# Altium schematic symbol library Custom1.SchLib: 476 symbols (part 14 of 16)
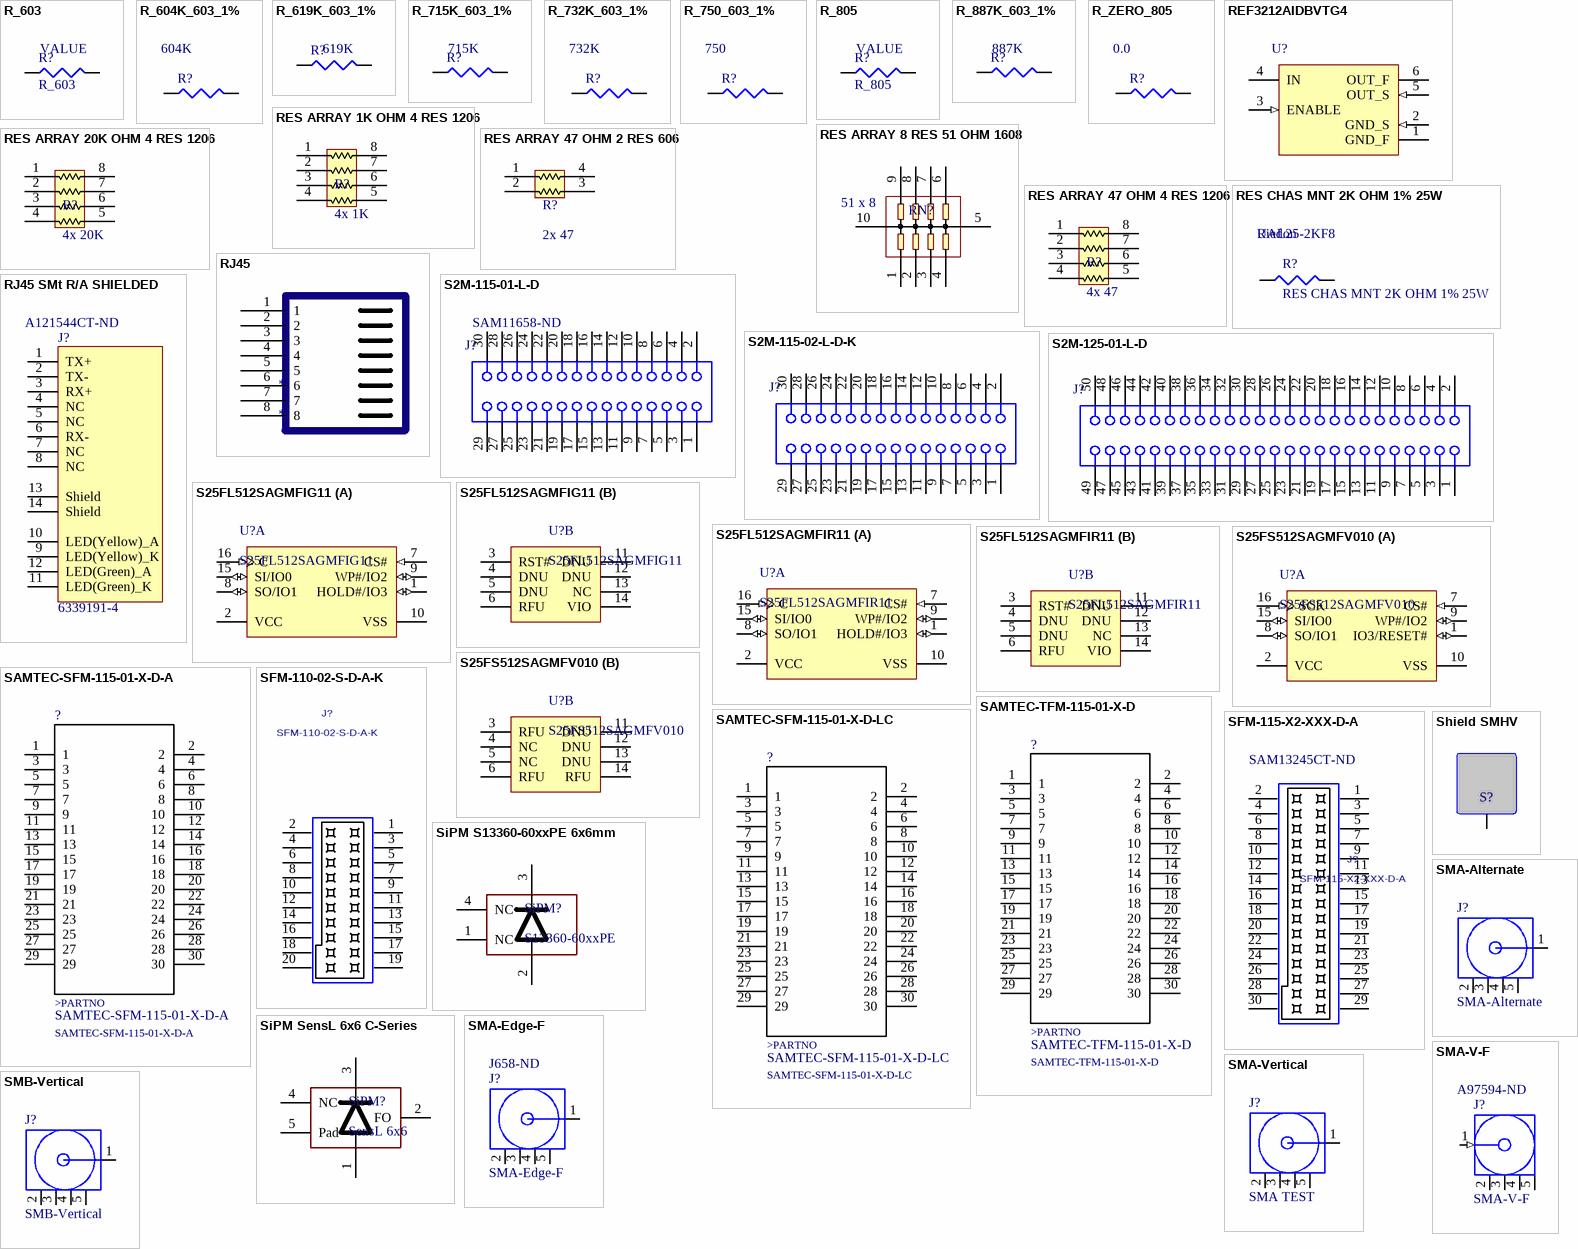
[diagram p38: symbols R_603 to SMB-Vertical]

## RES ARRAY 1K OHM 4 RES 1206
designator R?, comment 4x 1K
RES ARRAY 1K OHM 4 RES 1206; Manufacturer: Rohm Semiconductor; Manufacturer Part Number: MNR14ERAPJ102; Circuit Type: Isolated; Tolerance: ±5%; Number of Resistors: 4; Power Per Element: 62.5mW; Temperature Coefficient: ±200ppm/°C; Supplier 1: Digi-Key; RoHS: RoHS Compliant; Category: Resistors; Stock 1: 37433; Pricing 1: 1=0.1, 10=0.041, 25=0.03, 100=0.0169, 250=0.01288, 500=0.0103, 1000=0.00758 (USD); Packaging: Cut Tape (CT); Resistance (Ohms): 1k; Number of Pins: 8; Operating Temperature: -55°C ~ 155°C; Applications: -; Mounting Type: Surface Mount; Package / Case: 1206 (3216 Metric), Convex, Long Side Terminals; Supplier Device Package: -; Size / Dimension: 0.126" L x 0.063" W (3.20mm x 1.60mm); Height: 0.024" (0.60mm); ComponentLink1URL: http://rohmfs.rohm.com/en/products/databook/datasheet/passive/resistor/chip_resistor_network/mnr_g.pdf; ComponentLink1Description: http://rohmfs.rohm.com/en/products/databook/datasheet/passive/resistor/chip_resistor_network/mnr_g.pdf; Supplier Part Number 1: RHM1595CT-ND
footprint R-Pack-4 1206
pins: 1, 2, 3, 4, 5, 6, 7, 8

## RES ARRAY 8 RES 51 OHM 1608
designator RN?, comment Resistance (Ohms): 51 x 8  (hidden comment: Res Network 8)
RES ARRAY 8 RES 51 OHM 1608; Manufacturer: Bourns Inc.; Manufacturer Part Number: CAT25-510JALF; Circuit Type: Bussed; Tolerance: ±5%; Number of Resistors: 8; Power Per Element: 62.5mW; Temperature Coefficient: ±200ppm/°C; Supplier 1: Digi-Key; RoHS: RoHS Compliant; Category: Resistors; Stock 1: 6340; Pricing 1: 1=0.19, 10=0.178, 25=0.1604, 50=0.1568, 100=0.1495, 250=0.13984, 500=0.12558, 1000=0.11592 (USD); Packaging: Cut Tape (CT); Number of Pins: 10; Operating Temperature: -55°C ~ 125°C; Applications: -; Mounting Type: Surface Mount; Package / Case: 1608, Concave, Long Side Terminals; Supplier Device Package: -; Size / Dimension: 0.157" L x 0.083" W (4.00mm x 2.10mm); Height: 0.026" (0.65mm); ComponentLink1URL: http://www.bourns.com/docs/Product-Datasheets/CAT25.pdf; ComponentLink1Description: http://www.bourns.com/docs/Product-Datasheets/CAT25.pdf; Supplier Part Number 1: CAT25-510JALFCT-ND
footprint Res Array Cat25
pins: 1, 2, 3, 4, 5, 6, 7, 8, 9, 10

## RES ARRAY 20K OHM 4 RES 1206
designator R?, comment 4x 20K
RES ARRAY 20K OHM 4 RES 1206; Manufacturer: Rohm Semiconductor; Manufacturer Part Number: MNR14ERAPJ203; Circuit Type: Isolated; Tolerance: ±5%; Number of Resistors: 4; Power Per Element: 62.5mW; Temperature Coefficient: ±200ppm/°C; Supplier 1: Digi-Key; RoHS: RoHS Compliant; Category: Resistors; Stock 1: 14149; Pricing 1: 1=0.1, 10=0.041, 25=0.03, 100=0.0169, 250=0.01288, 500=0.0103, 1000=0.00758 (USD); Packaging: Cut Tape (CT); Resistance (Ohms): 20k; Number of Pins: 8; Operating Temperature: -55°C ~ 155°C; Applications: -; Mounting Type: Surface Mount; Package / Case: 1206 (3216 Metric), Convex, Long Side Terminals; Supplier Device Package: -; Size / Dimension: 0.126" L x 0.063" W (3.20mm x 1.60mm); Height: 0.024" (0.60mm); ComponentLink1URL: http://rohmfs.rohm.com/en/products/databook/datasheet/passive/resistor/chip_resistor_network/mnr_g.pdf; ComponentLink1Description: http://rohmfs.rohm.com/en/products/databook/datasheet/passive/resistor/chip_resistor_network/mnr_g.pdf; Supplier Part Number 1: RHM1436CT-ND
footprint R-Pack-4 1206
pins: 1, 2, 3, 4, 5, 6, 7, 8

## RES ARRAY 47 OHM 2 RES 606
designator R?, comment 2x 47
RES ARRAY 47 OHM 2 RES 606; Manufacturer: Rohm Semiconductor; Manufacturer Part Number: MNR12ERAPJ470; Circuit Type: Isolated; Resistance (Ohms): 47; Tolerance: ±5%; Number of Resistors: 2; Power Per Element: 62.5mW; Temperature Coefficient: ±200ppm/°C; Supplier 1: Digi-Key; RoHS: RoHS Compliant; Category: Resistors; Stock 1: 10000; Pricing 1: 1=0.1, 10=0.064, 25=0.0464, 100=0.026, 250=0.0198, 500=0.01584, 1000=0.01166 (USD); Packaging: Cut Tape (CT); Number of Pins: 4; Operating Temperature: -55°C ~ 155°C; Applications: -; Mounting Type: Surface Mount; Package / Case: 0606, Convex; Supplier Device Package: -; Size / Dimension: 0.063" L x 0.063" W (1.60mm x 1.60mm); Height: 0.022" (0.55mm); ComponentLink1URL: http://rohmfs.rohm.com/en/products/databook/datasheet/passive/resistor/chip_resistor_network/mnr_g.pdf; ComponentLink1Description: http://rohmfs.rohm.com/en/products/databook/datasheet/passive/resistor/chip_resistor_network/mnr_g.pdf; Supplier Part Number 1: RHM1393CT-ND
footprint R-Pack-2 606
pins: 1, 2, 3, 4

## RES ARRAY 47 OHM 4 RES 1206
designator R?, comment 4x 47
RES ARRAY 47 OHM 4 RES 1206; Manufacturer: Rohm Semiconductor; Manufacturer Part Number: MNR14ERAPJ470; Circuit Type: Isolated; Resistance (Ohms): 47; Tolerance: ±5%; Number of Resistors: 4; Power Per Element: 62.5mW; Temperature Coefficient: ±200ppm/°C; Supplier 1: Digi-Key; RoHS: RoHS Compliant; Category: Resistors; Stock 1: 9813; Pricing 1: 1=0.1, 10=0.041, 25=0.03, 100=0.0169, 250=0.01288, 500=0.0103, 1000=0.00758 (USD); Packaging: Cut Tape (CT); Number of Pins: 8; Operating Temperature: -55°C ~ 155°C; Applications: -; Mounting Type: Surface Mount; Package / Case: 1206 (3216 Metric), Convex, Long Side Terminals; Supplier Device Package: -; Size / Dimension: 0.126" L x 0.063" W (3.20mm x 1.60mm); Height: 0.024" (0.60mm); ComponentLink1URL: http://rohmfs.rohm.com/en/products/databook/datasheet/passive/resistor/chip_resistor_network/mnr_g.pdf; ComponentLink1Description: http://rohmfs.rohm.com/en/products/databook/datasheet/passive/resistor/chip_resistor_network/mnr_g.pdf; Supplier Part Number 1: RHM1604CT-ND
footprint R-Pack-4 1206
pins: 1, 2, 3, 4, 5, 6, 7, 8

## RES CHAS MNT 2K OHM 1% 25W
designator R?  Manufacturer: Riedon
UAL25-2KF8; Resistance: 2KR; Temperature Coefficient: 20ppm/°C; Lead/Base Style: Solder; Supplier 1: Digi-Key; Stock 1: 81; Pricing 1: 1=3.39, 10=3.025, 25=2.8436, 50=2.6016, 100=2.2385, 250=1.936, 500=1.7545, 1000=1.5428, 5000=1.4883 (USD); Housing Material: Aluminium; Min Operating Temperature: -55°C; Max Operating Temperature: 275°C; Package Quantity: 25; Packaging: Bulk; Tolerance: 1%; Composition: Wirewound; Max Power Dissipation: 25W; Length: 1.063inch; Height: 0.575inch; Width: 1.079inch; ComponentLink1URL: https://datasheet.ciiva.com/15007/ual-15007994.pdf; ComponentLink1Description: https://datasheet.ciiva.com/15007/ual-15007994.pdf; ComponentLink2URL: https://datasheet.ciiva.com/18613/ual-18613775.pdf; ComponentLink2Description: https://datasheet.ciiva.com/18613/ual-18613775.pdf; Supplier Part Number 1: 696-1499-ND; Manufacturer Part Number: UAL25-2KF8
pins: 1, 2

## RJ45
designator *
pins: 1, 2, 3, 4, 5, 6, 7, 8

## RJ45 SMt R/A SHIELDED
designator J?, comment 6339191-4  Supplier Part Number 1: A121544CT-ND
100 Base-TX (Fast Ethernet) SMD RJ45 single port (1x1) with LEDS Integrated Magnetics Connector; Manufacturer: TE Connectivity; Max Voltage Rating (AC): 150V; Shielding: Shielded; Number of Positions: 8; Number of Ports: 1; Direction: Up; Connector Type: Jack; Keyed: No; PCB Mounting Orientation: Right Angle; Pitch: 2.54mm; PCB Thickness: 1.57mm; Supplier 1: Digi-Key; Manufacturer Part Number: 6339191-4; Stock 1: 2748; Pricing 1: 1 = 5.04000, 10 = 4.84200, 25 = 4.43800, 50 = 4.23640, 100 = 4.03460 (USD); RoHS: Yes; Contact Plating: Gold; Contact Material: Bronze; Color: Green; Housing Color: Black; Housing Material: Polymer; Min Operating Temperature: -40°C; Max Operating Temperature: 85°C; Packaging: Tape and Reel; Package Quantity: 200; Number of Rows: 1; Termination: SMD/SMT; Number of Contacts: 8; Number of Positions Loaded: 8; Orientation: Right Angle; Element Configuration: Single; Length: 18.64mm; Depth: 15.62mm; Radiation Hardening: No; Flammability Rating: UL94 V-0; ComponentLink1URL: https://datasheet.ciiva.com/686/eng-cd-6339191-e-686126.pdf?src-supplier=Digi-Key; ComponentLink1Description: https://datasheet.ciiva.com/686/eng-cd-6339191-e-686126.pdf?src-supplier=Digi-Key
footprint RJ45 SM 6339191-4
pins: 1 TX+, 2 TX-, 3 RX+, 4 NC, 5 NC, 6 RX-, 7 NC, 8 NC, 9 LED(Yellow)_K, 10 LED(Yellow)_A, 11 LED(Green)_K, 12 LED(Green)_A, 13 Shield, 14 Shield

## S2M-115-01-L-D
designator J?  Supplier Part Number 1: SAM11658-ND
High Reliability Cable Socket, Surface Mount, Vertical, -55 to 125 degC, 2 mm Pitch, 30-Pin, Female, RoHS; Manufacturer: Samtec; PartNumber: S2M-115-02-F-D-K; Manufacturer Part Number: S2M-115-01-L-D; Pitch: 2 mm; Contact Resistance: 10mR; Number of Contacts: 30; Gender: Receptacle; DatasheetVersion: F-214; PackageVersion: M, 9/2010; PackageReference: S2M-115-02-X-D-K; PackageDescription: 2 mm Double Row Socket Strip; Orientation: Vertical; RoHS: True; Temperature Range: -55 to 125 degC; Mounting Technology: Surface Mount; ComponentLink1Description: Manufacturer URL; ComponentLink1URL: http://www.samtec.com; ComponentLink2Description: Datasheet; ComponentLink2URL: http://www.samtec.com/documents/webfiles/pdf/s2m.pdf; ComponentLink3Description: Package Specification; ComponentLink3URL: http://www.samtec.com/documents/webfiles/cpdf/S2M-1XX-XX-X-D-XX-XX-MKT.pdf; Supplier 1: Digi-Key; Stock 1: 307; Pricing 1: 1 = 6.42000, 10 = 5.85900, 100 = 4.46400, 500 = 3.76650, 1000 = 3.55725 (USD); Mount: Through Hole; Contact Plating: Gold; Contact Material: Copper; Housing Color: Black; Housing Material: Polymer; Min Operating Temperature: -55°C; Max Operating Temperature: 125°C; Number of Rows: 2; Termination: Solder; Length: 30.35mm; REACH SVHC: No SVHC; ComponentLink4URL: http://cloud.samtec.com/catalog_english/s2m.pdf; ComponentLink4Description: http://cloud.samtec.com/catalog_english/s2m.pdf; ComponentLink5URL: http://datasheet.octopart.com/S2M-115-01-L-D-Samtec-datasheet-97202882.pdf; ComponentLink5Description: http://datasheet.octopart.com/S2M-115-01-L-D-Samtec-datasheet-97202882.pdf; ComponentLink6URL: http://sigma.octopart.com/97202883/technical_drawing/Samtec-S2M-115-01-L-D.pdf; ComponentLink6Description: http://sigma.octopart.com/97202883/technical_drawing/Samtec-S2M-115-01-L-D.pdf; ComponentLink7URL: http://datasheet.octopart.com/S2M-115-01-L-D-Samtec-datasheet-10883520.pdf; ComponentLink7Description: http://datasheet.octopart.com/S2M-115-01-L-D-Samtec-datasheet-10883520.pdf; ComponentLink8URL: http://datasheet.octopart.com/S2M-115-01-L-D-Samtec-datasheet-10882915.pdf; ComponentLink8Description: http://datasheet.octopart.com/S2M-115-01-L-D-Samtec-datasheet-10882915.pdf; ComponentLink9URL: http://datasheet.octopart.com/S2M-115-01-L-D-Samtec-datasheet-116535980.pdf; ComponentLink9Description: http://datasheet.octopart.com/S2M-115-01-L-D-Samtec-datasheet-116535980.pdf
footprint SMTC-S2M-115-02-X-D-K (Socket Strip, 2x15 Pins, Vertical, 2mm Pitch, Female)
pins: 1, 2, 3, 4, 5, 6, 7, 8, 9, 10, 11, 12, 13, 14, 15, 16, 17, 18, 19, 20, 21, 22, 23, 24, 25, 26, 27, 28, 29, 30

## S2M-115-02-L-D-K
designator J?
High Reliability Cable Socket, Surface Mount, Vertical, -55 to 125 degC, 2 mm Pitch, 30-Pin, Female, RoHS; Manufacturer: Samtec; PartNumber: S2M-115-02-L-D-K; Pitch: 2 mm; DatasheetVersion: F-214; PackageVersion: M, 9/2010; PackageReference: S2M-115-02-X-D-K; PackageDescription: 2 mm Double Row Socket Strip; Orientation: Vertical; RoHS: True; Temperature Range: -55 to 125 degC; Mounting Technology: Surface Mount; ComponentLink1Description: Manufacturer URL; ComponentLink1URL: http://www.samtec.com; ComponentLink2Description: Datasheet; ComponentLink2URL: http://www.samtec.com/documents/webfiles/pdf/s2m.pdf; ComponentLink3Description: Package Specification; ComponentLink3URL: http://www.samtec.com/documents/webfiles/cpdf/S2M-1XX-XX-X-D-XX-XX-MKT.pdf
footprint SMTC-S2M-115-02-X-D-K (Socket Strip, 2x15 Pins, Vertical, 2mm Pitch, Female)
pins: 1, 2, 3, 4, 5, 6, 7, 8, 9, 10, 11, 12, 13, 14, 15, 16, 17, 18, 19, 20, 21, 22, 23, 24, 25, 26, 27, 28, 29, 30

## S2M-125-01-L-D
designator J?
High Reliability Cable Socket, Through-hole, Vertical, -55 to 125 degC, 2 mm Pitch, 50-Pin, Female, RoHS; Manufacturer: Samtec; PartNumber: S2M-125-01-L-D; Pitch: 2 mm; DatasheetVersion: F-214; PackageVersion: M, 9/2010; PackageReference: S2M-125-01-X-D; PackageDescription: 2 mm Double Row Socket Strip; Supplier 1: Farnell; Supplier Part Number 1: 2085245; Orientation: Vertical; RoHS: True; Temperature Range: -55 to 125 degC; Mounting Technology: Through-hole; ComponentLink1Description: Manufacturer URL; ComponentLink1URL: http://www.samtec.com; ComponentLink2Description: Datasheet; ComponentLink2URL: http://www.samtec.com/documents/webfiles/pdf/s2m.pdf; ComponentLink3Description: Package Specification; ComponentLink3URL: http://www.samtec.com/documents/webfiles/cpdf/S2M-1XX-XX-X-D-XX-XX-MKT.pdf
footprint SMTC-S2M-125-01-X-D (Socket Strip, 2x25 Pins, Vertical, 2mm Pitch, Female)
pins: 1, 2, 3, 4, 5, 6, 7, 8, 9, 10, 11, 12, 13, 14, 15, 16, 17, 18, 19, 20, 21, 22, 23, 24, 25, 26, 27, 28, 29, 30, 31, 32, 33, 34, 35, 36, 37, 38, 39, 40, 41, 42, 43, 44, 45, 46, 47, 48, 49, 50

## S25FL512SAGMFIG11
designator U?
IC FLASH 512MBIT 133MHZ 16SOIC; Manufacturer: Spansion; Memory Type: FLASH - NOR; Memory Size: 512M (64M x 8); Interface: SPI Serial; Voltage - Supply: 2.7 V ~ 3.6 V; Supplier 1: Digi-Key; Manufacturer Part Number: S25FL512SAGMFIG11; RoHS: RoHS Compliant; Category: Integrated Circuits (ICs); Stock 1: 40; Pricing 1: 1=5.9, 10=5.382, 50=5.243, 100=4.7034, 250=4.68532, 500=4.4555 (USD); Packaging: Tube; Format - Memory: FLASH; Speed: 133MHz; Operating Temperature: -40°C ~ 85°C; Package / Case: 16-SOIC (0.295", 7.50mm Width); Supplier Device Package: 16-SOIC; ComponentLink1URL: http://www.spansion.com/Support/Datasheets/S25FL512S_00.pdf; ComponentLink1Description: http://www.spansion.com/Support/Datasheets/S25FL512S_00.pdf; Supplier Part Number 1: 1274-1147-ND
footprint MICT-SF-16_N (SOIC, 16-Leads, Body 10.3x7.5mm, Pitch 1.27mm, IPC Medium Density)
part A pins: 1 HOLD#/IO3 (io) "HOLD: Pauses any serial communications with the device without deselecting the device. DQ1 (output) is High-Z. DQ0 (input) and the clock are "Don't Care." To enable HOLD, the device must be selected with S# driven LOW.HOLD# (See Datasheet)", 2 VCC (power) "Device core power supply: Source voltage.", 7 CS# (in) "Chip select: When S# is HIGH, the device is deselected and DQ1 is at High-Z. When in extended SPI mode, with the device deselected, DQ1 is tri-stated. Unless an internal PROGRAM,ERASE, or WRITE STATUS REGISTER cycle is in (See Datasheet)", 8 SO/IO1 (io) "Serial data:Transfers data serially out of the device. Data is shifted out on the falling edge of the clock. DQ1 is used for input/output during the following operations: DUAL INPUT FAST PROGRAM, QUAD INPUT FAST PROGRAM, (See Datasheet)", 9 WP#/IO2 (io) "Write protect: W# can be used as a protection control input or in QIO-SPI operations. When in extended SPI with single or dual commands, the WRITE PROTECT function is selectable by the voltage range applied to the signal. If (See Datasheet)", 10 VSS (power) "Ground: Reference for the VCC supply voltage.", 15 SI/IO0 (io) "Serial data: Transfers data serially into the device. It receives command codes, addresses, and the data to be programmed. Values are latched on the rising edge of the clock. DQ0 is used for input/output during the following (See Datasheet)", 16 C (in) "Clock: Provides the timing of the serial interface. Commands, addresses, or data present at serial data inputs are latched on the rising edge of the clock. Data is shifted out on the falling edge of the clock."
part B pins: 3 RST# "Do not use.", 4 DNU "Do not use.", 5 DNU "Do not use.", 6 RFU "Do not use.", 11 DNU "Do not use.", 12 DNU "Do not use.", 13 NC "Do not use.", 14 VIO "Do not use."

## S25FL512SAGMFIR11
designator U?
IC FLASH 512MBIT 133MHZ 16SOIC; Manufacturer: Spansion; Memory Type: FLASH - NOR; Memory Size: 512M (64M x 8); Interface: SPI Serial; Voltage - Supply: 2.7 V ~ 3.6 V; Supplier 1: Digi-Key; Manufacturer Part Number: S25FL512SAGMFIR11; RoHS: RoHS Compliant; Category: Integrated Circuits (ICs); Stock 1: 0; Pricing 1: 94=5.24309 (USD); Packaging: Tube; Format - Memory: FLASH; Speed: 133MHz; Operating Temperature: -40°C ~ 85°C; Package / Case: 16-SOIC (0.295", 7.50mm Width); Supplier Device Package: 16-SOIC; ComponentLink1URL: http://www.spansion.com/Support/Datasheets/S25FL512S_00.pdf; ComponentLink1Description: http://www.spansion.com/Support/Datasheets/S25FL512S_00.pdf; Supplier Part Number 1: S25FL512SAGMFIR11-ND
footprint MICT-SF-16_N (SOIC, 16-Leads, Body 10.3x7.5mm, Pitch 1.27mm, IPC Medium Density)
part A pins: 1 HOLD#/IO3 (io) "HOLD: Pauses any serial communications with the device without deselecting the device. DQ1 (output) is High-Z. DQ0 (input) and the clock are "Don't Care." To enable HOLD, the device must be selected with S# driven LOW.HOLD# (See Datasheet)", 2 VCC (power) "Device core power supply: Source voltage.", 7 CS# (in) "Chip select: When S# is HIGH, the device is deselected and DQ1 is at High-Z. When in extended SPI mode, with the device deselected, DQ1 is tri-stated. Unless an internal PROGRAM,ERASE, or WRITE STATUS REGISTER cycle is in (See Datasheet)", 8 SO/IO1 (io) "Serial data:Transfers data serially out of the device. Data is shifted out on the falling edge of the clock. DQ1 is used for input/output during the following operations: DUAL INPUT FAST PROGRAM, QUAD INPUT FAST PROGRAM, (See Datasheet)", 9 WP#/IO2 (io) "Write protect: W# can be used as a protection control input or in QIO-SPI operations. When in extended SPI with single or dual commands, the WRITE PROTECT function is selectable by the voltage range applied to the signal. If (See Datasheet)", 10 VSS (power) "Ground: Reference for the VCC supply voltage.", 15 SI/IO0 (io) "Serial data: Transfers data serially into the device. It receives command codes, addresses, and the data to be programmed. Values are latched on the rising edge of the clock. DQ0 is used for input/output during the following (See Datasheet)", 16 C (in) "Clock: Provides the timing of the serial interface. Commands, addresses, or data present at serial data inputs are latched on the rising edge of the clock. Data is shifted out on the falling edge of the clock."
part B pins: 3 RST# "Do not use.", 4 DNU "Do not use.", 5 DNU "Do not use.", 6 RFU "Do not use.", 11 DNU "Do not use.", 12 DNU "Do not use.", 13 NC "Do not use.", 14 VIO "Do not use."

## S25FS512SAGMFV010
designator U?
IC FLASH 512M SPI 133MHZ 16SOIC; Manufacturer: Cypress; Supplier 1: Digi-Key; Manufacturer Part Number: S25FS512SAGMFV010; Stock 1: 221; Pricing 1: 1 = 8.400000, 10 = 7.729000, 25 = 7.568800, 50 = 7.541800, 240 = 6.765830, 480 = 6.560670, 720 = 6.239540, 1200 = 6.021000 (USD); RoHS: No; Supplier Part Number 1: S25FS512SAGMFV010-ND; ComponentLink1Description: Data Sheet; ComponentLink1URL: https://www.cypress.com/file/216376/download; ComponentLink2Description: Digi-Key Link; ComponentLink2URL: https://www.digikey.com/products/en/integrated-circuits-ics/memory/774?k=S25FS512SAGMFV010-ND&k=&pkeyword=S25FS512SAGMFV010-ND&sv=0&s=42281&sf=0&quantity=&ColumnSort=0&page=1&pageSize=25
footprint MICT-SF-16_N (SOIC, 16-Leads, Body 10.3x7.5mm, Pitch 1.27mm, IPC Medium Density)
part A pins: 1 IO3/RESET# (io) "HOLD: Pauses any serial communications with the device without deselecting the device. DQ1 (output) is High-Z. DQ0 (input) and the clock are "Don't Care." To enable HOLD, the device must be selected with S# driven LOW.HOLD# (See Datasheet)", 2 VCC (power) "Device core power supply: Source voltage.", 7 CS# (in) "Chip select: When S# is HIGH, the device is deselected and DQ1 is at High-Z. When in extended SPI mode, with the device deselected, DQ1 is tri-stated. Unless an internal PROGRAM,ERASE, or WRITE STATUS REGISTER cycle is in (See Datasheet)", 8 SO/IO1 (io) "Serial data:Transfers data serially out of the device. Data is shifted out on the falling edge of the clock. DQ1 is used for input/output during the following operations: DUAL INPUT FAST PROGRAM, QUAD INPUT FAST PROGRAM, (See Datasheet)", 9 WP#/IO2 (io) "Write protect: W# can be used as a protection control input or in QIO-SPI operations. When in extended SPI with single or dual commands, the WRITE PROTECT function is selectable by the voltage range applied to the signal. If (See Datasheet)", 10 VSS (power) "Ground: Reference for the VCC supply voltage.", 15 SI/IO0 (io) "Serial data: Transfers data serially into the device. It receives command codes, addresses, and the data to be programmed. Values are latched on the rising edge of the clock. DQ0 is used for input/output during the following (See Datasheet)", 16 SCK (in) "Clock: Provides the timing of the serial interface. Commands, addresses, or data present at serial data inputs are latched on the rising edge of the clock. Data is shifted out on the falling edge of the clock."
part B pins: 3 RFU "Do not use.", 4 NC "Do not use.", 5 NC "Do not use.", 6 RFU "Do not use.", 11 DNU "Do not use.", 12 DNU "Do not use.", 13 DNU "Do not use.", 14 RFU "Do not use."

## SAMTEC-SFM-115-01-X-D-A
designator ?
/ .050 Tiger Eyeâ„¢ High-Reliability Socket Strip /; MP: SFM-115-01-S-D-A; MF: Samtec; Package: None; Digi-Key_Purchase_URL: https://www.digikey.com/product-detail/en/samtec-inc/SFM-115-01-S-D-A/SAM10690-ND/2664627?utm_source=snapeda&utm_medium=aggregator&utm_campaign=symbol; Digi-Key_Part_Number: SAM10690-ND; SnapEDA_Link: https://www.snapeda.com/parts/SFM-115-01-S-D-A/Samtec%20Inc./view-part/?ref=snap; Value: *
footprint SAMTEC-SFM-115-01-X-D-A
pins: 1, 2, 3, 4, 5, 6, 7, 8, 9, 10, 11, 12, 13, 14, 15, 16, 17, 18, 19, 20, 21, 22, 23, 24, 25, 26, 27, 28, 29, 30
text: >PARTNO

## SAMTEC-SFM-115-01-X-D-LC
designator ?
/ Conn Socket Strip SKT 30 POS 1.27mm Solder ST Top Entry Thru-Hole TIGER EYEâ„¢ Tube /; MP: SFM-115-01-S-D-LC; MF: Samtec; Package: None; Digi-Key_Purchase_URL: https://www.digikey.com/product-detail/en/samtec-inc/SFM-115-01-S-D-LC/SAM12831-ND/2664628?utm_source=snapeda&utm_medium=aggregator&utm_campaign=symbol; Digi-Key_Part_Number: SAM12831-ND; SnapEDA_Link: https://www.snapeda.com/parts/SFM-115-01-S-D-LC/Samtec%20Inc./view-part/?ref=snap; Value: *
footprint SAMTEC-SFM-115-01-X-D-LC
pins: 1, 2, 3, 4, 5, 6, 7, 8, 9, 10, 11, 12, 13, 14, 15, 16, 17, 18, 19, 20, 21, 22, 23, 24, 25, 26, 27, 28, 29, 30
text: >PARTNO

## SAMTEC-TFM-115-01-X-D
designator ?
Conn Shrouded Header HDR 30 POS 1.27mm Solder ST Thru-Hole Tube; MP: TFM-115-01-S-D-A; MF: Samtec; Package: None; Digi-Key_Purchase_URL: https://www.digikey.com/product-detail/en/samtec-inc/TFM-115-01-S-D-A/SAM12073-ND/6694170?utm_source=snapeda&utm_medium=aggregator&utm_campaign=symbol; Digi-Key_Part_Number: SAM12073-ND; SnapEDA_Link: https://www.snapeda.com/parts/TFM-115-01-S-D-A/Samtec%20Inc./view-part/?ref=snap; Value: *
footprint SAMTEC-TFM-115-01-X-D
pins: 1, 2, 3, 4, 5, 6, 7, 8, 9, 10, 11, 12, 13, 14, 15, 16, 17, 18, 19, 20, 21, 22, 23, 24, 25, 26, 27, 28, 29, 30
text: >PARTNO

## SFM-110-02-S-D-A-K
designator J?
20 Position Receptacle Connector  Surface Mount; ComponentLink1Description: Datasheet; ComponentLink1URL: http://suddendocs.samtec.com/catalog_english/sfm.pdf; ComponentLink2Description: Supplier Link; ComponentLink2URL: https://www.digikey.com/product-detail/en/samtec-inc/SFM-110-02-S-D-A-K/SAM11698-ND/6694293
footprint SFM-115-X2-XXX-D-A
pins: 1, 2, 3, 4, 5, 6, 7, 8, 9, 10, 11, 12, 13, 14, 15, 16, 17, 18, 19, 20

## SFM-115-X2-XXX-D-A
designator J?  Supplier Part Number 1: SAM13245CT-ND
SOCKET STRIP, .050" (1.27mm) PITCH, SURFACE MOUNT.; Manufacturer: Samtec; Manufacturer Part Number: SFM-115-02-S-D-A-K-TR; Contact Resistance: 15mR; Connector Type: Receptacle,Socket; Number of Positions: 30; Gender: Receptacle; Max Voltage Rating (AC): 250V; Row Spacing: 0.05inch; Supplier 1: Digi-Key; RoHS: Yes; Stock 1: 1543; Pricing 1: 1 = 8.10000, 10 = 7.74400, 100 = 6.51200 (USD); Mount: Surface Mount; Contact Plating: Gold; Color: Black; Contact Material: Copper; Housing Color: Black; Housing Material: Polymer; Min Operating Temperature: -55°C; Max Operating Temperature: 125°C; Number of Rows: 2; Packaging: Tape and Reel; Termination: Solder; Number of Contacts: 30; Orientation: Straight; Length: 22.22mm; Pitch: 1.27mm; Depth: 3.68mm; Radiation Hardening: No; REACH SVHC: No SVHC; ComponentLink2Description: Supplier Link; ComponentLink2URL: https://www.digikey.com/products/en?keywords=SAM13245CT-ND; ComponentLink3Description: Datasheet; ComponentLink3URL: http://suddendocs.samtec.com/catalog_english/sfm.pdf; ComponentLink4Description: Drawing; ComponentLink4URL: http://suddendocs.samtec.com/prints/sfm-1xx-xx-xxx-d-xxx-mkt.pdf
footprint SFM-115-X2-XXX-D-A
pins: 1, 2, 3, 4, 5, 6, 7, 8, 9, 10, 11, 12, 13, 14, 15, 16, 17, 18, 19, 20, 21, 22, 23, 24, 25, 26, 27, 28, 29, 30

## Shield SMHV
designator S?, comment Shield  (value not drawn)
Mu-metal shield for SMHV
footprint Shield SMHV
pins: 1

## SiPM S13360-60xxPE 6x6mm
designator SiPM?, comment S13360-60xxPE
S13660-60xxPE
footprint SiPM S13360-60xxpe (Hamamatsu 6x6mm SMT)
pins: 1 NC, 2, 3, 4 NC

## SiPM SensL 6x6 C-Series
designator SiPM?, comment SensL 6x6
MicroFC-600xx-SMT-C1
footprint SiPM 6x6 C-Series
pins: 1, 2 FO, 3, 4 NC, 5 Pad

## SMA-Alternate
designator J?
CONN SMA JACK STR 50 OHM PCB; Manufacturer: TE Connectivity; Manufacturer Part Number: 5-1814832-1; Connector Type: Jack, Female Socket; Contact Termination: Solder; Impedance: 50 Ohm; Frequency - Max: 3GHz; Body Material: Zinc Alloy; Body Finish: Gold; Center Contact Material: Phosphor Bronze; Dielectric Material: Polytetrafluoroethylene (PTFE); Supplier 1: Digi-Key; RoHS: RoHS Compliant; Category: Connectors, Interconnects; Stock 1: 20137; Pricing 1: 1=2.85, 10=2.736, 25=2.508, 50=2.394, 100=2.28, 250=1.995, 500=1.938, 1000=1.653, 2500=1.539 (USD); Packaging: Bulk; Connector Style: SMA; Shield Termination: Solder; Mounting Type: Through Hole; Cable Group: -; Fastening Type: Threaded; Features: -; Housing Color: -; Ingress Protection: -; Center Contact Plating: Gold; Voltage Rating: -; Operating Temperature: -; ComponentLink1URL: http://www.te.com/commerce/DocumentDelivery/DDEController?Action=srchrtrv&DocNm=1814832&DocType=Customer+Drawing&DocLang=English; ComponentLink1Description: http://www.te.com/commerce/DocumentDelivery/DDEController?Action=srchrtrv&DocNm=1814832&DocType=Customer+Drawing&DocLang=English; Supplier Part Number 1: A97594-ND
footprint SMA-SMB
pins: 1 Signal "Signal Pin", 2 GND (power), 3 GND (power), 4 GND (power), 5 GND (power)

## SMA-Edge-F
designator J?  Supplier Part Number 1: J658-ND
RF Coaxial PCB Connector, MCX; Thru-Hole, Right-Angle Mount Socket, Blunt Post Terminal, 50 Ohm Impedance; Manufacturer: Bel Stewart / Cinch Connectivity; Manufacturer Part Number: 142-0701-851; Body Material: Brass; Body Style: Straight; Connector Type: Jack PCB; Brand: Johnson / Emerson Connectivity Solutions; Gender: Jack (Female); Impedance: 50 Ohms; Maximum Frequency: 18 GHz; RF Series: SMA; Supplier 1: Digikey; Stock 1: 66611; Pricing 1: 1=5.94, 10=5.292, 50=4.32, 100=3.888, 250=3.564, 500=3.024, 750=2.8728, 1000=2.7, 2500=2.592 (USD); Contact Plating: Gold; Factory Pack Quantity: 5; Product Category: RF Connectors / Coaxial Connectors; Product: Connectors; Orientation: Straight; Operating Temperature Range: - 65 C to + 165 C; RoHS: Details; Termination Style: Solder; Series: SMA; ComponentLink1URL: https://datasheet.ciiva.com/643/dr-1420701851-643347.pdf; ComponentLink1Description: https://datasheet.ciiva.com/643/dr-1420701851-643347.pdf; ComponentLink2URL: https://datasheet.ciiva.com/43573/getdatasheetpartid-687037-43573046.pdf; ComponentLink2Description: https://datasheet.ciiva.com/43573/getdatasheetpartid-687037-43573046.pdf; ComponentLink3URL: https://datasheet.ciiva.com/26321/91607-26321640.pdf; ComponentLink3Description: https://datasheet.ciiva.com/26321/91607-26321640.pdf; ComponentLink4URL: https://datasheet.ciiva.com/17011/142-0701-851-17011657.pdf; ComponentLink4Description: https://datasheet.ciiva.com/17011/142-0701-851-17011657.pdf; ComponentLink5URL: https://datasheet.ciiva.com/30111/pi-142-0701-851-30111179.pdf; ComponentLink5Description: https://datasheet.ciiva.com/30111/pi-142-0701-851-30111179.pdf
footprint SMA_EDGE
pins: 1 Signal "Signal Pin", 2 GND (power), 3 GND (power), 4 GND (power), 5 GND (power)

## SMA-V-F
designator J?  Supplier Part Number 1: A97594-ND
RF Coaxial PCB Connector, MCX; Thru-Hole, Right-Angle Mount Socket, Blunt Post Terminal, 50 Ohm Impedance; PCB_Layout: Complies with manufacturer's recommendation.; DrillSize: Corresponds to nominal value.; Published: 15-Jul-2004; LatestRevisionDate: 15-Jul-2004; LatestRevisionNote: Component Replaced.; DatasheetDocument: 30-May-2003; PackageDocument: 04-Jul-1999; PackageReference: 919-119J-51AX; Publisher: Altium Limited; ComponentLink1Description: Manufacturer Link; ComponentLink1URL: http://www.amphenolrf.com/; Supplier 1: Digi-Key
footprint MCX5.08-H5 (Connector; RF Coaxial, MCX, Thru-Hole; 5 Position; Right-Angle)
footprint SMA_4.75_V5 (Connector; RF Coaxial, SMA, SM; 5 Position; Vertical)
pins: 1 Signal (in) "Signal Pin", 2 GND (power), 3 GND (power), 4 GND (power), 5 GND (power)

## SMA-Vertical
designator J?, comment SMA TEST
SMA Vertical, 0.200"LS; Manufacturer: Emerson Network Power Connectivity Johnson; Manufacturer Part Number: 142-0701-231; Connector Type: Jack, Female Socket; Contact Termination: Solder; Impedance: 50 Ohm; Frequency - Max: 18GHz; Body Material: Brass; Body Finish: Gold; Center Contact Material: Beryllium Copper; Dielectric Material: Polytetrafluoroethylene (PTFE); Voltage Rating: 335V; Supplier 1: Digi-Key; Supplier Part Number 1: J608-ND; RoHS: RoHS Compliant; Category: Connectors, Interconnects; Pricing: 1=5.46, 10=4.861, 50=3.968, 100=3.5712, 250=3.2736, 500=2.7776, 750=2.63872, 1000=2.48, 2500=2.3808 (USD); Packaging: Bulk; Connector Style: SMA; Shield Termination: Solder; Mounting Type: Through Hole; Cable Group: -; Fastening Type: Threaded; Features: -; Housing Color: Gold; Ingress Protection: -; Center Contact Plating: Gold; Operating Temperature: -65°C ~ 165°C; ComponentLink1URL: https://cinchconnectivity.com/OA_MEDIA/specs/pi-142-0701-231.pdf; ComponentLink1Description: https://cinchconnectivity.com/OA_MEDIA/specs/pi-142-0701-231.pdf; Stock: 9668; Stock 1: 9535; Pricing 1: 1=5.46, 10=4.861, 50=3.968, 100=3.5712, 250=3.2736, 500=2.7776, 750=2.63872, 1000=2.48, 2500=2.3808 (USD)
footprint SMA Vertical 200LS
pins: 1 Signal "Signal Pin", 2 GND (power), 3 GND (power), 4 GND (power), 5 GND (power)

## SMB-Vertical
designator J?
SMB, Vertical, 0.200"LS, 0.245" diameter barrel; Manufacturer: TE Connectivity; Manufacturer Part Number: 414244-1; Connector Type: Jack, Male Pin; Contact Termination: Solder; Impedance: 75 Ohm; Frequency - Max: 4GHz; Body Material: Brass; Body Finish: Gold; Dielectric Material: Polytetrafluoroethylene (PTFE); Supplier 1: Digi-Key; Supplier Part Number 1: A4047-ND; RoHS: RoHS Compliant; Category: Connectors, Interconnects; Pricing: 1=7.66, 10=7.337, 25=6.6992, 50=6.38, 100=6.061, 250=5.423, 500=5.104, 1000=4.466, 2500=4.2427 (USD); Packaging: Bulk; Connector Style: SMB; Shield Termination: Solder; Mounting Type: Through Hole; Cable Group: -; Fastening Type: Snap-On; Features: -; Housing Color: -; Ingress Protection: -; Center Contact Material: Brass; Center Contact Plating: Gold; Voltage Rating: -; Operating Temperature: -; ComponentLink1URL: http://www.te.com/commerce/DocumentDelivery/DDEController?Action=srchrtrv&DocNm=414244&DocType=Customer+Drawing&DocLang=English; ComponentLink1Description: http://www.te.com/commerce/DocumentDelivery/DDEController?Action=srchrtrv&DocNm=414244&DocType=Customer+Drawing&DocLang=English; Stock: 766; Stock 1: 709; Pricing 1: 1=7.66, 10=7.337, 25=6.6992, 50=6.38, 100=6.061, 250=5.423, 500=5.104, 1000=4.466, 2500=4.2427 (USD)
footprint SMB Vertical 200LS
pins: 1 Signal "Signal Pin", 2 GND (power), 3 GND (power), 4 GND (power), 5 GND (power)

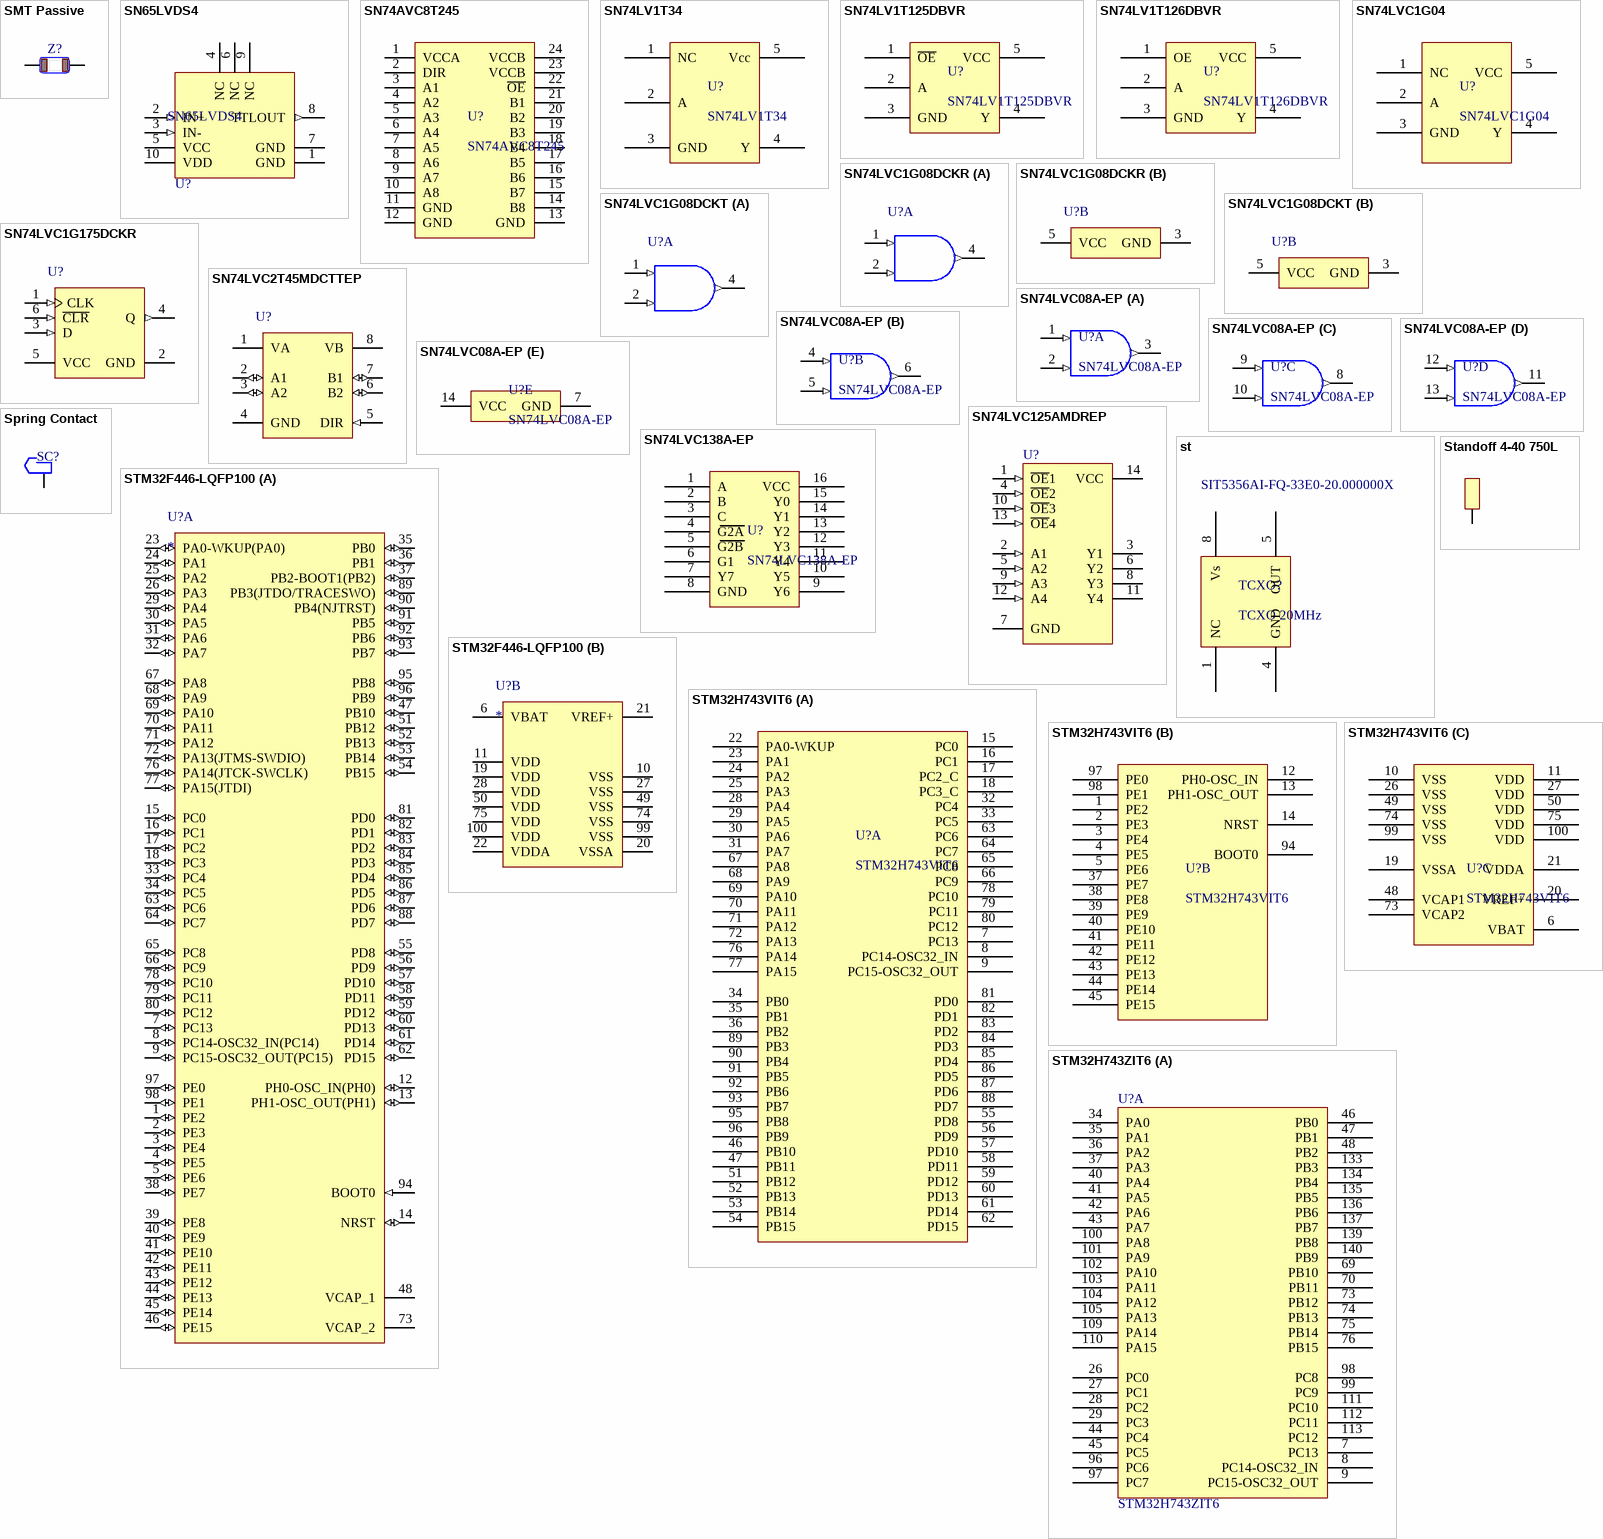
[diagram p22: symbols SMT Passive to STM32H743ZIT6]

## SMT Passive
designator Z?, comment Passive  (value not drawn)  (no BOM)
Passive SMT component
footprint RES_0603 (Chip Resistor, Body 1.6x0.8mm, IPC Medium Density)
footprint RES_0805 (Chip Resistor, Body 2.0x1.3mm, IPC Medium Density)
footprint RES_1206 (Chip Resistor, Body 3.2x1.6mm, IPC Medium Density)
pins: 1, 2

## SN65LVDS4
designator U?
0/1 Receiver  LVDS 10-UQFN (2.0x1.5); Manufacturer: Texas Instruments; Manufacturer Part Number: SN65LVDS4RSER; Propagation Delay: 3.3ns; Number of Receivers: 1; Max Supply Voltage: 2.5V; Min Supply Voltage: 1.8V; Data Rate: 500Mbps; Logic Function: Transceiver; ComponentLink1Description: Supplier Link; ComponentLink1URL: https://www.digikey.com/product-detail/en/texas-instruments/SN65LVDS4RSER/296-46446-1-ND/7033619; ComponentLink2Description: Datasheet; ComponentLink2URL: http://www.ti.com/product/SN65LVDS4/technicaldocuments?HQS=TI-null-null-digikeymode-df-pf-null-wwe&DCM=yes; Supplier 1: Digi-Key; Stock 1: 9446; Pricing 1: 1 = 1.60000, 10 = 1.44100, 100 = 1.08770, 500 = 0.92452, 1000 = 0.73418 (USD); RoHS: Yes; Number of Pins: 10; Min Operating Temperature: -40°C; Max Operating Temperature: 85°C; Packaging: Tape and Reel; Package Quantity: 3000; Number of Elements: 1; Number of Drivers: 1; Turn-On Delay Time: 3.3ns; Radiation Hardening: No; Lead Free: Lead Free; Supplier Part Number 1: 296-46446-1-ND
footprint RSE10 (QFN, 10-Leads, Body 1.5x2mm, Pitch 0.5mm, TI Recommended)
pins: 1 GND (power), 2 IN+ (in), 3 IN- (in), 4 NC (power), 5 VCC (power), 6 NC (power), 7 GND (power), 8 TTLOUT (out), 9 NC (power), 10 VDD (power)

## SN74AVC8T245
designator U?
IC BUS TRANSCVR 8BIT 24TSSOP; Manufacturer: Texas Instruments; Manufacturer Part Number: SN74AVCH8T245PWR; Translator Type: Voltage Level; Channel Type: Bidirectional; Number of Circuits: 1; Channels per Circuit: 8; Voltage - VCCA: 1.2 V ~ 3.6 V; Output Type: Tri-State, Non-Inverted; Data Rate: 320Mbps; Supplier 1: Digi-Key; RoHS: RoHS Compliant; Category: Integrated Circuits (ICs); Stock 1: 3929; Pricing 1: 1=1.52, 10=1.365, 100=1.095, 500=0.9, 1000=0.745 (USD); Packaging: Cut Tape (CT); Voltage - VCCB: 1.2 V ~ 3.6 V; Input Signal: -; Output Signal: -; Operating Temperature: -40°C ~ 85°C (TA); Features: -; Mounting Type: Surface Mount; Package / Case: 24-TSSOP (0.173", 4.40mm Width); Supplier Device Package: 24-TSSOP; ComponentLink1URL: http://www.ti.com/lit/ds/symlink/sn74avch8t245.pdf; ComponentLink1Description: http://www.ti.com/lit/ds/symlink/sn74avch8t245.pdf; Supplier Part Number 1: 296-19112-1-ND
footprint TSSOP24  PW24_M (TSOP, 24-Leads, Body 7.8x4.4mm, Pitch 0.65mm, IPC Low Density)
pins: 1 VCCA, 2 DIR, 3 A1, 4 A2, 5 A3, 6 A4, 7 A5, 8 A6, 9 A7, 10 A8, 11 GND, 12 GND, 13 GND, 14 B8, 15 B7, 16 B6, 17 B5, 18 B4, 19 B3, 20 B2, 21 B1, 22 ~{OE}, 23 VCCB, 24 VCCB

## SN74LV1T34
designator U?
Level Translator; Manufacturer: Texas Instruments; Manufacturer Part Number: SN74LV1T34DBVR; Logic Type: Buffer/Line Driver, Non-Inverting; Number of Elements: 1; Current - Output High, Low: 8mA, 8mA; Voltage - Supply: 1.6 V ~ 5.5 V; Supplier 1: Digi-Key; RoHS: RoHS Compliant; Category: Integrated Circuits (ICs); Stock 1: 3829; Pricing 1: 1=0.5, 10=0.341, 100=0.159, 1000=0.138 (USD); Packaging: Cut Tape (CT); Number of Bits per Element: 1; Operating Temperature: -40°C ~ 125°C; Mounting Type: Surface Mount; Package / Case: SC-74A, SOT-753; Supplier Device Package: SOT-23-5; ComponentLink1URL: http://www.ti.com/lit/ds/symlink/sn74lv1t34.pdf; ComponentLink1Description: http://www.ti.com/lit/ds/symlink/sn74lv1t34.pdf; Supplier Part Number 1: 296-37176-1-ND
footprint SOT-23-5 (SOT23, 5-Leads, Body 2.9x1.6mm, Pitch 0.95mm, IPC Low Density)
pins: 1 NC, 2 A, 3 GND, 4 Y, 5 Vcc

## SN74LV1T125DBVR
designator U?
SINGLE BUS BUFFER GATE 3-STATE O; Manufacturer: Texas Instruments; Number of Elements: 1; Max Supply Voltage: 5.5V; Min Supply Voltage: 1.6V; High Level Output Current: -8mA; Low Level Output Current: 8mA; Polarity: Non-Inverting; Quiescent Current: 1uA; ComponentLink1URL: http://www.ti.com/lit/ds/symlink/sn74lvc1g07-q1.pdf; ComponentLink1Description: http://www.ti.com/lit/ds/symlink/sn74lvc1g07-q1.pdf; Supplier 1: Digi-Key; Manufacturer Part Number: SN74LV1T125DBVR; Stock 1: 37778; Pricing 1: 1 = 0.47000, 10 = 0.37800, 100 = 0.25710, 500 = 0.19282, 1000 = 0.14461 (USD); RoHS: Yes; Mount: Surface Mount; Case/Package: SOT-23-5; Number of Pins: 5; Weight: 0.000353oz; Contact Plating: Gold; Min Operating Temperature: -40°C; Max Operating Temperature: 125°C; Package Quantity: 3000; Packaging: Tape and Reel; Logic Function: Buffer; Number of Bits per Element: 1; Number of Input Lines: 1; Number of Output Lines: 1; Operating Supply Current: 8mA; Number of Bits: 1; Radiation Hardening: No; REACH SVHC: No SVHC; Lead Free: Lead Free; ComponentLink3URL: https://datasheet.ciiva.com/29634/sn74lv1t125-29634743.pdf?src-supplier=Digi-Key; ComponentLink3Description: https://datasheet.ciiva.com/29634/sn74lv1t125-29634743.pdf?src-supplier=Digi-Key; Supplier Part Number 1: 296-37172-1-ND; ComponentLink4Description: digi-key link; ComponentLink4URL: https://www.digikey.com/product-detail/en/texas-instruments/SN74LV1T125DBVR/296-37172-1-ND/4555589
footprint SOT-23-5 (SOT23, 5-Leads, Body 2.9x1.6mm, Pitch 0.95mm, IPC Low Density)
pins: 1 ~{OE}, 2 A, 3 GND, 4 Y, 5 VCC

## SN74LV1T126DBVR
designator U?
Buffer, Non-Inverting 1 Element 1 Bit per Element 3-State Output SOT-23-5; Manufacturer: Texas Instruments; Logic Function: Buffer,Inverting; Number of Elements: 1; Max Supply Voltage: 5.5V; Min Supply Voltage: 1.6V; Low Level Output Current: 8mA; High Level Output Current: -8mA; Propagation Delay: 16ns; Quiescent Current: 1uA; ComponentLink1URL: http://www.ti.com/general/docs/suppproductinfo.tsp?distId=10&gotoUrl=http%3A%2F%2Fwww.ti.com%2Flit%2Fgpn%2Fsn74lv1t126; ComponentLink1Description: Datasheet; ComponentLink5Description: Supplier Link; ComponentLink5URL: https://www.digikey.com/products/en?keywords=296-37174-1-ND; Supplier 1: Digi-Key; Manufacturer Part Number: SN74LV1T126DBVR; Stock 1: 10088; Pricing 1: 1=0.47000, 10=0.37800, 100=0.25710, 500=0.19282, 1000=0.14461 (USD); RoHS: Yes; Mount: Surface Mount; Case/Package: SOT-23-5; Number of Pins: 5; Weight: 0.000353oz; Min Operating Temperature: -40°C; Max Operating Temperature: 125°C; Packaging: Tape and Reel; Package Quantity: 3000; Number of Input Lines: 1; Number of Output Lines: 1; Polarity: Non-Inverting; Operating Supply Current: 8mA; Number of Bits per Element: 1; Number of Channels: 1; Number of Inputs: 1; Number of Outputs: 1; Number of Bits: 1; Radiation Hardening: No; REACH SVHC: No SVHC; Lead Free: Lead Free; Supplier Part Number 1: 296-37174-1-ND
footprint SOT-23-5 (SOT23, 5-Leads, Body 2.9x1.6mm, Pitch 0.95mm, IPC Low Density)
pins: 1 OE, 2 A, 3 GND, 4 Y, 5 VCC

## SN74LVC1G04
designator U?
IC INVERTER 1CH 1-INP SOT23-5; Manufacturer: Texas Instruments; Manufacturer Part Number: SN74LVC1G04MDBVREP; Logic Function: Buffer; Number of Elements: 1; Max Supply Voltage: 5.5V; Min Supply Voltage: 1.65V; Output Current: 32mA; Propagation Delay: 13.9ns; Quiescent Current: 10uA; High Level Output Current: -32mA; Supplier 1: Digi-Key; Stock 1: 9053; Pricing 1: 1=0.70000, 10=0.61200, 100=0.46910, 500=0.37080, 1000=0.29664 (USD); RoHS: Yes; Mount: Surface Mount; Case/Package: SOT-23; Number of Pins: 5; Weight: 0.000395oz; Min Operating Temperature: -55°C; Max Operating Temperature: 125°C; Packaging: Tape and Reel; Package Quantity: 1; Number of Inputs: 1; Number of Circuits: 1; Low Level Output Current: 32mA; Turn-On Delay Time: 13.9ns; Number of Gates: 1; Number of Bits: 1; Radiation Hardening: No; REACH SVHC: No SVHC; Lead Free: Lead Free; Supplier Part Number 1: 296-22341-1-ND; ComponentLink1Description: Supplier Link; ComponentLink1URL: https://www.digikey.com/product-detail/en/texas-instruments/SN74LVC1G04MDBVREP/296-22341-1-ND/1666914; ComponentLink2Description: Datasheet; ComponentLink2URL: http://www.ti.com/general/docs/suppproductinfo.tsp?distId=10&gotoUrl=http%3A%2F%2Fwww.ti.com%2Flit%2Fgpn%2Fsn74lvc1g04-ep
footprint SOT-23-5 (SOT23, 5-Leads, Body 2.9x1.6mm, Pitch 0.95mm, IPC Low Density)
pins: 1 NC, 2 A, 3 GND, 4 Y, 5 VCC

## SN74LVC1G08DCKR
designator U?
AND Gate IC 1 Channel  SC-70-5; Manufacturer: Texas Instruments; Manufacturer Part Number: SN74LVC1G08DCKR; Min Supply Voltage: 1.65V; Max Supply Voltage: 5.5V; Propagation Delay: 4ns; Output Current: 32mA; Number of Inputs: 2; Number of Outputs: 1; Quiescent Current: 10uA; High Level Output Current: -32mA; Schmitt Trigger Input: No; ComponentLink1Description: Supplier Link; ComponentLink1URL: https://www.digikey.com/products/en?keywords=296-11602-1-ND; ComponentLink2Description: Datasheet; ComponentLink2URL: http://www.ti.com/lit/ds/symlink/sn74lvc1g08.pdf; Supplier 1: Digi-Key; Stock 1: 148647; Pricing 1: 1=0.43000, 10=0.32000, 100=0.19960, 500=0.13658, 1000=0.10506 (USD); RoHS: Yes; Mount: Surface Mount; Case/Package: SC; Number of Pins: 5; Weight: 8.8E-05oz; Contact Plating: Gold; Min Operating Temperature: -40°C; Max Operating Temperature: 125°C; Logic Function: AND; Packaging: Tape and Reel; Package Quantity: 1; Max Output Current: 32mA; Number of Gates: 1; Number of Input Lines: 2; Number of Output Lines: 1; Low Level Output Current: 32mA; Number of Circuits: 1; Number of Elements: 1; Turn-On Delay Time: 4ns; Termination: SMD/SMT; Number of Bits: 1; Length: 2.15mm; Height: 1mm; Width: 1.4mm; Radiation Hardening: No; REACH SVHC: No SVHC; Lead Free: Lead Free; ComponentLink3URL: https://datasheet.ciiva.com/14290/sn74lvc1g08-14290720.pdf?src-supplier=Avnet; ComponentLink3Description: https://datasheet.ciiva.com/14290/sn74lvc1g08-14290720.pdf?src-supplier=Avnet; ComponentLink4URL: https://datasheet.ciiva.com/1864/sn74lvc1g08-1864342.pdf?src-supplier=Digi-Key; ComponentLink4Description: https://datasheet.ciiva.com/1864/sn74lvc1g08-1864342.pdf?src-supplier=Digi-Key; ComponentLink5URL: https://datasheet.ciiva.com/26048/sn74lvc1g08-26048426.pdf?src-supplier=Avnet+Europe; ComponentLink5Description: https://datasheet.ciiva.com/26048/sn74lvc1g08-26048426.pdf?src-supplier=Avnet+Europe; ComponentLink6URL: https://datasheet.ciiva.com/16503/sn74lvc1g08-16503404.pdf?src-supplier=Avnet+Asia; ComponentLink6Description: https://datasheet.ciiva.com/16503/sn74lvc1g08-16503404.pdf?src-supplier=Avnet+Asia; ComponentLink7URL: https://datasheet.ciiva.com/14290/sn74lvc1g08-14290717.pdf?src-supplier=Avnet; ComponentLink7Description: https://datasheet.ciiva.com/14290/sn74lvc1g08-14290717.pdf?src-supplier=Avnet; ComponentLink8URL: https://datasheet.ciiva.com/1864/sn74lvc1g08-1864341.pdf?src-supplier=Digi-Key; ComponentLink8Description: https://datasheet.ciiva.com/1864/sn74lvc1g08-1864341.pdf?src-supplier=Digi-Key; ComponentLink9URL: https://datasheet.ciiva.com/1864/sn74lvc1g08-1864343.pdf?src-supplier=Digi-Key; ComponentLink9Description: https://datasheet.ciiva.com/1864/sn74lvc1g08-1864343.pdf?src-supplier=Digi-Key; ComponentLink10URL: https://datasheet.ciiva.com/28540/1772545-28540798.pdf?src-supplier=Element14; ComponentLink10Description: https://datasheet.ciiva.com/28540/1772545-28540798.pdf?src-supplier=Element14; Supplier Part Number 1: 296-11602-1-ND
footprint DCK0005A_N (SOT23, 5-Leads, Body 2.15x1.4mm, Pitch 0.65mm, IPC Medium Density)
footprint DCK0005A_M (SOT23, 5-Leads, Body 2.15x1.4mm, Pitch 0.65mm, IPC Low Density)
footprint DCK0005A_L (SOT23, 5-Leads, Body 2.15x1.4mm, Pitch 0.65mm, IPC High Density)
part A pins: 1 A (in) "Input A", 2 B (in) "Input B", 4 Y (out) "Output Y"
part B pins: 3 GND (power) "Ground Pin", 5 VCC (power) "Power Pin"

## SN74LVC1G08DCKT
designator U?
Single 2-Input Positive-AND Gate, DCK0005A, SMALL T&R; Generic Part Number: SN74LVC1G08; Manufacturer: Texas Instruments; PartNumber: SN74LVC1G08DCKT; VCC(Min)(V): 1.65; VCC(Max)(V): 5.5; Output Type: CMOS; ICC @ Nom Voltage(Max)(mA): 0.01; Input Type: CMOS/TTL; Bits(#): 1; F @ Nom Voltage(Max)(Mhz): 150; Rating: Catalog; Technology Family: LVC; Voltage(Nom)(V): 1.8,2.5,3.3,5; Schmitt Trigger: No; Output Drive (IOL/IOH)(Max)(mA): 32/-32; tpd @ Nom Voltage(Max)(ns): 4.5,6,4,5; Logic: True; Gate Type: AND; DatasheetVersion: SCES217Y; PackageReference: DCK0005A; Supplier 1: Mouser; Supplier Part Number 1: 595-SN74LVC1G08DCKT; Supplier 2: Digi-Key; Supplier Part Number 2: 296-26593-2-ND; Supplier 3: Digi-Key; Supplier Part Number 3: 296-26593-1-ND; Supplier 4: Digi-Key; Supplier Part Number 4: 296-26593-6-ND; Operating Temperature Range(C): -40 to 125,-40 to 85; Sub-Family: AND Gate; 3-State Output: No; ComponentLink1Description: Manufacturer URL; ComponentLink1URL: http://www.ti.com/; ComponentLink2Description: Datasheet; ComponentLink2URL: http://www.ti.com/lit/ds/symlink/sn74lvc1g08.pdf
footprint DCK0005A_N (SOT23, 5-Leads, Body 2.15x1.4mm, Pitch 0.65mm, IPC Medium Density)
footprint DCK0005A_M (SOT23, 5-Leads, Body 2.15x1.4mm, Pitch 0.65mm, IPC Low Density)
footprint DCK0005A_L (SOT23, 5-Leads, Body 2.15x1.4mm, Pitch 0.65mm, IPC High Density)
part A pins: 1 A (in) "Input A", 2 B (in) "Input B", 4 Y (out) "Output Y"
part B pins: 3 GND (power) "Ground Pin", 5 VCC (power) "Power Pin"

## SN74LVC1G175DCKR
designator U?
Single D-Type Flip-Flop with Asynchronous Clear, DCK0006A, LARGE T&R; Generic Part Number: SN74LVC1G175; Manufacturer: Texas Instruments; PartNumber: SN74LVC1G175DCKR; VCC(Min)(V): 1.65; VCC(Max)(V): 5.5; Output Type: CMOS; ICC @ Nom Voltage(Max)(mA): 0.01; Input Type: CMOS/TTL; Bits(#): 1; F @ Nom Voltage(Max)(Mhz): 150; Rating: Catalog; Technology Family: LVC; Voltage(Nom)(V): 1.8,2.5,3.3,5; Schmitt Trigger: No; Output Drive (IOL/IOH)(Max)(mA): 32/-32; tpd @ Nom Voltage(Max)(ns): 13.4,7.1,5.7,4; Logic: True; DatasheetVersion: SCES560F; PackageReference: DCK0006A; Supplier 1: Mouser; Supplier Part Number 1: 595-SN74LVC1G175DCKR; Supplier 2: Digi-Key; Supplier Part Number 2: 296-16998-2-ND; Supplier 3: Digi-Key; Supplier Part Number 3: 296-16998-1-ND; Supplier 4: Digi-Key; Supplier Part Number 4: 296-16998-6-ND; Operating Temperature Range(C): -40 to 125,-40 to 85; 3-State Output: No; Sub-Family: D-Type Flip-Flop; ComponentLink1Description: Manufacturer URL; ComponentLink1URL: http://www.ti.com/; ComponentLink2Description: Datasheet; ComponentLink2URL: http://www.ti.com/lit/ds/symlink/sn74lvc1g175.pdf
footprint DCK0006A_N (SOT23, 6-Leads, Body 2.15x1.4mm, Pitch 0.65mm, IPC Medium Density)
footprint DCK0006A_M (SOT23, 6-Leads, Body 2.15x1.4mm, Pitch 0.65mm, IPC Low Density)
footprint DCK0006A_L (SOT23, 6-Leads, Body 2.15x1.4mm, Pitch 0.65mm, IPC High Density)
pins: 1 CLK (in), 2 GND (power), 3 D (in), 4 Q (out), 5 VCC (power), 6 ~{CLR} (in)

## SN74LVC2T45MDCTTEP
designator U?
Voltage Level Translator Bidirectional 1 Circuit 2 Channel 420Mbps SM8 (SSOP); Manufacturer: Texas Instruments; Manufacturer Part Number: SN74LVC2T45MDCTTEP; Max Supply Voltage: 5.5V; Min Supply Voltage: 1.65V; Propagation Delay: 3.5ns; Number of Channels: 2; Output Current: 32mA; Number of Elements: 1; Turn-On Delay Time: 53.2ns; Polarity: Non-Inverting; High Level Output Current: -32mA; Quiescent Current: 12mA; ComponentLink1Description: Manufacturer URL; ComponentLink1URL: http://www.ti.com/; ComponentLink2Description: Datasheet; ComponentLink2URL: http://www.ti.com/lit/ds/symlink/sn74lvc2t45-q1.pdf; ComponentLink3URL: https://datasheet.ciiva.com/14316/sn74lvc2t45-ep-14316386.pdf?src-supplier=Avnet; ComponentLink3Description: https://datasheet.ciiva.com/14316/sn74lvc2t45-ep-14316386.pdf?src-supplier=Avnet; ComponentLink4URL: https://datasheet.ciiva.com/15086/getdatasheetpartid-144548-15086248.pdf?src-supplier=Verical; ComponentLink4Description: https://datasheet.ciiva.com/15086/getdatasheetpartid-144548-15086248.pdf?src-supplier=Verical; ComponentLink5URL: https://datasheet.ciiva.com/1899/sn74lvc2t45-ep-1899619.pdf?src-supplier=Digi-Key; ComponentLink5Description: https://datasheet.ciiva.com/1899/sn74lvc2t45-ep-1899619.pdf?src-supplier=Digi-Key; ComponentLink6URL: https://datasheet.ciiva.com/1899/sn74lvc2t45-ep-1899620.pdf?src-supplier=Digi-Key; ComponentLink6Description: https://datasheet.ciiva.com/1899/sn74lvc2t45-ep-1899620.pdf?src-supplier=Digi-Key; ComponentLink7URL: https://datasheet.ciiva.com/1899/sn74lvc2t45-ep-1899621.pdf?src-supplier=Digi-Key; ComponentLink7Description: https://datasheet.ciiva.com/1899/sn74lvc2t45-ep-1899621.pdf?src-supplier=Digi-Key; ComponentLink8URL: https://datasheet.ciiva.com/48701/001073867-da-01-en-ic-bus-trans-sn74lvc2t45mdcttep-sm-8-tid-48701957.pdf?src-supplier=Conrad; ComponentLink8Description: https://datasheet.ciiva.com/48701/001073867-da-01-en-ic-bus-trans-sn74lvc2t45mdcttep-sm-8-tid-48701957.pdf?src-supplier=Conrad; Supplier 1: Digi-Key; Stock 1: 7228; Pricing 1: 1=1.67000, 10=1.50100, 100=1.20660 (USD); RoHS: Yes; Mount: Surface Mount; Case/Package: SSOP; Number of Pins: 8; Weight: 0.000825oz; Contact Plating: Gold; Min Operating Temperature: -55°C; Max Operating Temperature: 125°C; Packaging: Tape and Reel; Package Quantity: 250; Data Rate: 420Mbps; Number of Inputs: 2; Direction: Bidirectional; Logic Function: Translator; Number of Bits: 2; Low Level Output Current: 32mA; Radiation Hardening: No; REACH SVHC: No SVHC; Lead Free: Lead Free; Supplier Part Number 1: 296-23952-1-ND
footprint TI-DGK8_N (SOP, 8-Leads, Body 3x3mm, Pitch 0.65mm, IPC Medium Density)
pins: 1 VA (power) "Supply Voltage A", 2 A1 (io) "Output or input depending on state of DIR. Output level depends on VCCA", 3 A2 (io) "Output or input depending on state of DIR. Output level depends on VCCA", 4 GND (power) "Ground", 5 DIR (in) "Direction Pin, Connect to GND or to VCCA", 6 B2 (io) "Output or input depending on state of DIR. Output level depends on VCCB.", 7 B1 (io) "Output or input depending on state of DIR. Output level depends on VCCB.", 8 VB (power) "Supply Voltage B"